# Altium schematic symbol library MyLib.SCHLIB: 62 symbols
Pins are listed as number, name and electrical type; pins without a type are passive.

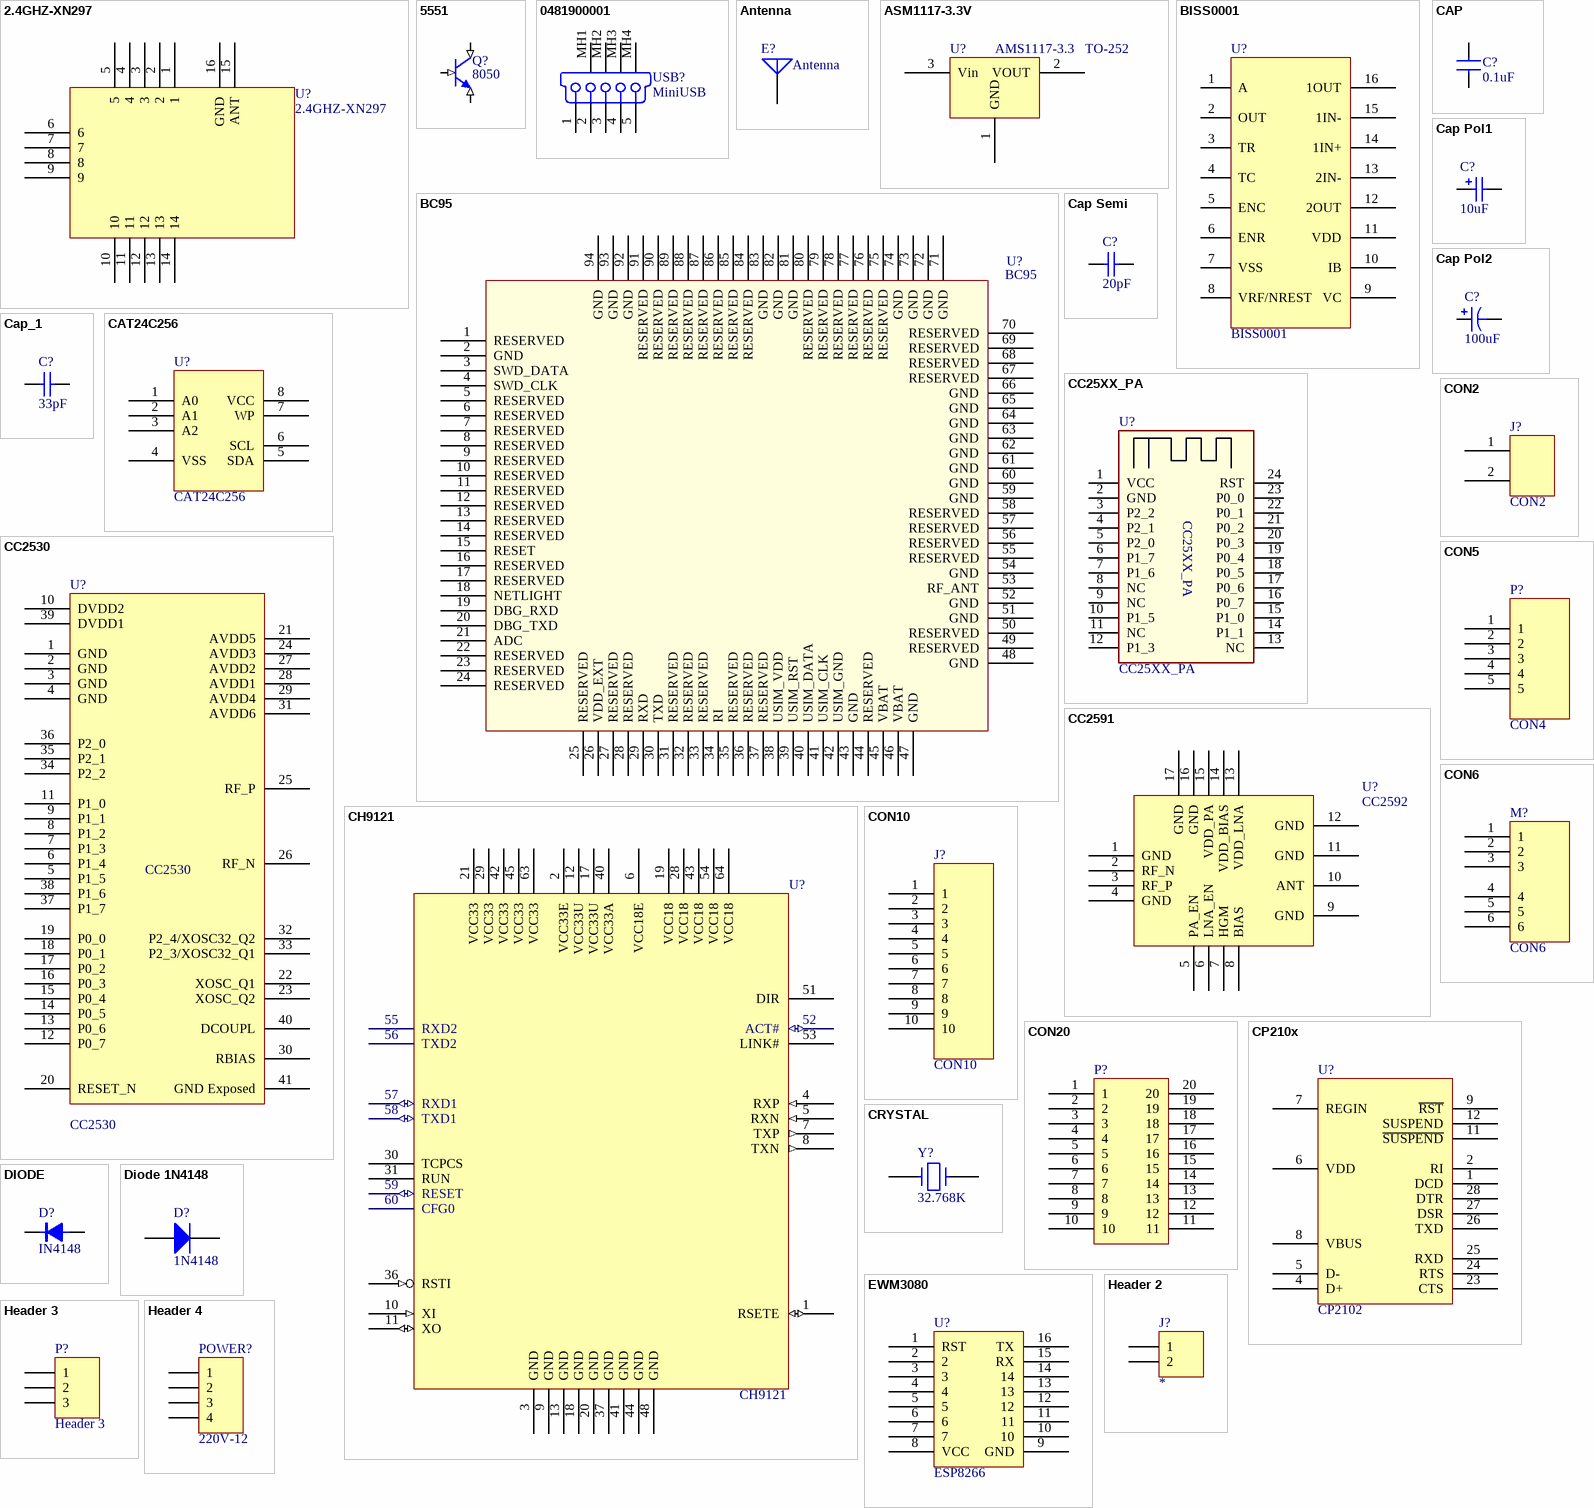
[diagram p0: symbols 2.4GHZ-XN297 to Header 4]

## 2.4GHZ-XN297
designator U?
footprint 2.4G-XN297
pins: 1, 2, 3, 4, 5, 6, 7, 8, 9, 10, 11, 12, 13, 14, 15 ANT, 16 GND

## 5551
designator Q?, comment 8050
NPN BJT
simulation model 5551 (NPN)
footprint SOT-23A
pins: 1 C (in), 2 B (in), 3 E (in)
1 alternate drawing of the same symbol

## 0481900001
designator USB?, comment MiniUSB
USB On-The-Go (OTG) Mini-B Receptacle, Right Angle, SMT, 0.80mm (.031") Pitch, Solder Tabs with Back Cover, Recessed Type; PCB_Layout: Complies with Manufacturer's Recommendation.; Published: 21-Sep-2007; DatasheetVersion: revA, May-2004; PackageVersion: May-2004; PackageReference: 481900001; Publisher: Altium Limited; PackageDescription: USB Mini-B, Sinking Type, SM; 5 Position; Right Angle, Body 11.45 x 11.8 x 3.9 mm (LxWxH); ComponentLink1Description: Manufacturer Link; ComponentLink1URL: http://www.molex.com/; ComponentLink2Description: Datasheet; ComponentLink2URL: http://www.molex.com/cmc_upload/0/000/895/958/SD-48190-001RevA.pdf
footprint USB-A-P; pin to pad MH1>6 MH2>7 MH3>8 MH4>9
signal-integrity model USB Mini-B
footprint MICROUSB2
pins: 1 V BUS (5V) "USB Vcc [Red]", 2 D- "USB Data - [White]", 3 D+ "USB Data + [Green]", 4 NC "Not Connected (or joined to pin 5 via resistor)", 5 GND "Ground [Black]", MH1 Tab "Shell", MH2 Tab "Shell", MH3 Tab "Shell", MH4 Tab "Shell"

## Antenna
designator E?
Generic Antenna; Published: 24-Mar-1999; LatestRevisionDate: 17-Jul-2002; LatestRevisionNote: Re-released for DXP Platform.; PackageReference: PIN1; Publisher: Altium Limited
footprint ANT
pins: 1 A

## ASM1117-3.3V
designator U?, comment AMS1117-3.3   TO-252
footprint TOP235
footprint TO-252
pins: 1 GND, 2 VOUT, 3 Vin

## BC95
designator U?
footprint BC95 (LCC, 58-Pins, Body 20.0x23.8mm (max), Pitch 1.10mm, IPC Medium Density)
pins: 1 RESERVED, 2 GND, 3 SWD_DATA, 4 SWD_CLK, 5 RESERVED, 6 RESERVED, 7 RESERVED, 8 RESERVED, 9 RESERVED, 10 RESERVED, 11 RESERVED, 12 RESERVED, 13 RESERVED, 14 RESERVED, 15 RESET, 16 RESERVED, 17 RESERVED, 18 NETLIGHT, 19 DBG_RXD, 20 DBG_TXD, 21 ADC, 22 RESERVED, 23 RESERVED, 24 RESERVED, 25 RESERVED, 26 VDD_EXT, 27 RESERVED, 28 RESERVED, 29 RXD, 30 TXD, 31 RESERVED, 32 RESERVED, 33 RESERVED, 34 RI, 35 RESERVED, 36 RESERVED, 37 RESERVED, 38 USIM_VDD, 39 USIM_RST, 40 USIM_DATA, 41 USIM_CLK, 42 USIM_GND, 43 GND, 44 RESERVED, 45 VBAT, 46 VBAT, 47 GND, 48 GND, 49 RESERVED, 50 RESERVED, 51 GND, 52 GND, 53 RF_ANT, 54 GND, 55 RESERVED, 56 RESERVED, 57 RESERVED, 58 RESERVED, 59 GND, 60 GND, 61 GND, 62 GND, 63 GND, 64 GND, 65 GND, 66 GND, 67 RESERVED, 68 RESERVED, 69 RESERVED, 70 RESERVED, 71 GND, 72 GND, 73 GND, 74 GND, 75 RESERVED, 76 RESERVED, 77 RESERVED, 78 RESERVED, 79 RESERVED, 80 RESERVED, 81 GND, 82 GND, 83 GND, 84 RESERVED, 85 RESERVED, 86 RESERVED, 87 RESERVED, 88 RESERVED, 89 RESERVED, 90 RESERVED, 91 RESERVED, 92 GND, 93 GND, 94 GND

## BISS0001
designator U?
footprint SOP16
pins: 1 A, 2 OUT, 3 TR, 4 TC, 5 ENC, 6 ENR, 7 VSS, 8 VRF/NREST, 9 VC, 10 IB, 11 VDD, 12 2OUT, 13 2IN-, 14 1IN+, 15 1IN-, 16 1OUT

## CAP
designator C?, comment 0.1uF
Capacitor; Value: 0.1uF
footprint 0603_C
footprint 0402
pins: 1, 2
2 alternate drawings of the same symbol

## Cap Pol1
designator C?, comment 10uF
Polarized Capacitor (Radial); Published: 8-Jun-2000; LatestRevisionDate: 17-Jul-2002; LatestRevisionNote: Re-released for DXP Platform.; PackageReference: RB7.6-15; Publisher: Altium Limited
simulation model CAP (Capacitor)
signal-integrity model Cap Pol
footprint 1206
pins: 1, 2
1 alternate drawing of the same symbol

## Cap Pol2
designator C?  value 100uF  (hidden comment: Cap Pol2)
Polarized Capacitor (Axial); Published: 8-Jun-2000; LatestRevisionDate: 17-Jul-2002; LatestRevisionNote: Re-released for DXP Platform.; PackageReference: POLAR0.8; Publisher: Altium Limited
footprint POLAR0.8 (Polarized Capacitor (Axial); 2 Leads)
footprint CAPPA14.05-10.5x6.3 (Capacitor, Axial, Polarised; Body 10.5 x 6.3 mm (LxDia. max), Lead Dia. 0.6 mm (typ))
footprint CAPPA23.6-18.5x8.5 (Capacitor, Axial, Polarised; Body 18.5 x 8.5 mm (LxDia. max), Lead Dia. 0.8 mm (typ))
footprint CAPPA31.6-26.5x12.5 (Capacitor, Axial, Polarised; Body 26.5 x 12.5 mm (LxDia. max), Lead Dia. 0.8 mm (typ))
footprint CAPPA35.6-30.5x18.5 (Capacitor, Axial, Polarised; Body 30.5 x 18.5 mm (LxDia. max), Lead Dia. 0.8 mm (typ))
footprint CAPPA46.1-41x21.5 (Capacitor, Axial, Polarised; Body 41 x 21.5 mm (LxDia. max), Lead Dia. 0.8 mm (typ))
simulation model CAP (Capacitor)
signal-integrity model Cap Pol
footprint 1206
pins: 1, 2
1 alternate drawing of the same symbol

## Cap Semi
designator C?  value 20pF  (hidden comment: Cap Semi)
Capacitor (Semiconductor SIM Model); Published: 8-Jun-2000; LatestRevisionDate: 17-Jul-2002; LatestRevisionNote: Re-released for DXP Platform.; PackageReference: C1206; Publisher: Altium Limited
simulation model CAP (Semiconductor Capacitor)
signal-integrity model Cap Semi
footprint 0603
footprint 0402
pins: 1, 2

## Cap_1
designator C?, comment value 33pF  (hidden comment: Cap)
Capacitor; Published: 8-Jun-2000; LatestRevisionDate: 17-Jul-2002; LatestRevisionNote: Re-released for DXP Platform.; PackageReference: RAD-0.3; Publisher: Altium Limited
footprint RAD-0.3 (Radial Cap, Thru-Hole; 2 Leads; 0.3 in Pin Spacing)
footprint CAPR2.54-5.1x3.2 (Capacitor, Ceramic, Thru-Hole, Dipped Radial; Body 5.1 x 3.2 mm (WxT) Pin Spacing 2.54 mm (typ))
footprint CAPR5.08-7.8x3.2 (Capacitor, Ceramic, Thru-Hole, Dipped Radial; Body 7.8 x 3.2 mm (WxT) Pin Spacing 5.08 mm (typ))
simulation model CAP (Capacitor)
signal-integrity model Cap
footprint 0402
pins: 1, 2

## CAT24C256
designator U?
footprint SO8
pins: 1 A0, 2 A1, 3 A2, 4 VSS, 5 SDA, 6 SCL, 7 WP, 8 VCC

## CC25XX_PA
designator U?
CC25XX_PA_MOD
footprint CC25XX_PA_MOD (CC2530ZIGBEE模块16*28mm)
pins: 1 VCC, 2 GND, 3 P2_2, 4 P2_1, 5 P2_0, 6 P1_7, 7 P1_6, 8 NC, 9 NC, 10 P1_5, 11 NC, 12 P1_3, 13 NC, 14 P1_1, 15 P1_0, 16 P0_7, 17 P0_6, 18 P0_5, 19 P0_4, 20 P0_3, 21 P0_2, 22 P0_1, 23 P0_0, 24 RST

## CC2530
designator U?
footprint QFN_40
pins: 1 GND, 2 GND, 3 GND, 4 GND, 5 P1_5, 6 P1_4, 7 P1_3, 8 P1_2, 9 P1_1, 10 DVDD2, 11 P1_0, 12 P0_7, 13 P0_6, 14 P0_5, 15 P0_4, 16 P0_3, 17 P0_2, 18 P0_1, 19 P0_0, 20 RESET_N, 21 AVDD5, 22 XOSC_Q1, 23 XOSC_Q2, 24 AVDD3, 25 RF_P, 26 RF_N, 27 AVDD2, 28 AVDD1, 29 AVDD4, 30 RBIAS, 31 AVDD6, 32 P2_4/XOSC32_Q2, 33 P2_3/XOSC32_Q1, 34 P2_2, 35 P2_1, 36 P2_0, 37 P1_7, 38 P1_6, 39 DVDD1, 40 DCOUPL, 41 GND Exposed

## CC2591
designator U?, comment CC2592
footprint QFN-16
pins: 1 GND, 2 RF_N, 3 RF_P, 4 GND, 5 PA_EN, 6 LNA_EN, 7 HGM, 8 BIAS, 9 GND, 10 ANT, 11 GND, 12 GND, 13 VDD_LNA, 14 VDD_BIAS, 15 VDD_PA, 16 GND, 17 GND

## CH9121
designator U?
footprint LQFP64M_10x10
footprint LQFP64_10x10
pins: 1 RSETE (io), 2 VCC33E (power), 3 GND (power), 4 RXP (in), 5 RXN (in), 6 VCC18E (power), 7 TXP (out), 8 TXN (out), 9 GND (power), 10 XI (in), 11 XO (io), 12 VCC33U (power), 13 GND (power), 17 VCC33U (power), 18 GND (power), 19 VCC18 (power), 20 GND (power), 21 VCC33 (power), 28 VCC18 (power), 29 VCC33 (power), 30 TCPCS, 31 RUN, 36 RSTI (in), 37 GND (power), 40 VCC33A (power), 41 GND (power), 42 VCC33 (power), 43 VCC18 (power), 44 GND (power), 45 VCC33 (power), 48 GND (power), 51 DIR, 52 ACT# (io), 53 LINK#, 54 VCC18 (power), 55 RXD2, 56 TXD2, 57 RXD1 (io), 58 TXD1 (io), 59 RESET (io), 60 CFG0, 63 VCC33 (power), 64 VCC18 (power)

## CON2
designator J?
footprint CON2-220V
pins: 1, 2

## CON5
designator P?, comment CON4
footprint PIN4-2
pins: 1, 2, 3, 4, 5

## CON6
designator M?
footprint CON6
pins: 1, 2, 3, 4, 5, 6

## CON10
designator J?
footprint CON10
pins: 1, 2, 3, 4, 5, 6, 7, 8, 9, 10

## CON20
designator P?  (value not drawn)
footprint SIP19
pins: 1, 2, 3, 4, 5, 6, 7, 8, 9, 10, 11, 12, 13, 14, 15, 16, 17, 18, 19, 20

## CP210x
designator U?, comment CP2102
footprint QFN28
pins: 0 GND (power) hidden to GND, 1 DCD, 2 RI, 3 GND hidden to GND, 4 D+, 5 D-, 6 VDD, 7 REGIN, 8 VBUS, 9 ~{RST}, 11 ~{SUSPEND}, 12 SUSPEND, 23 CTS, 24 RTS, 25 RXD, 26 TXD, 27 DSR, 28 DTR

## CRYSTAL
designator Y?, comment 32.768K
Crystal
footprint 32.768
pins: 1, 2

## DIODE
designator D?, comment IN4148
SMD Schottky  SMA SS110
footprint Diode
footprint 0603
pins: 1, 2
2 alternate drawings of the same symbol

## Diode 1N4148
designator D?, comment 1N4148
High Conductance Fast Diode; Published: 8-Jun-2000; LatestRevisionDate: 17-Jul-2002; LatestRevisionNote: Re-released for DXP Platform.; DatasheetVersion: 1997; PackageReference: DO-35; Publisher: Altium Limited; PackageDescription: Diode, Axial; Body 3.8 x 1.9 mm (LxDia. max), Lead Dia. 0.53 mm (max); Code_JEDEC: DO-204-AH; ComponentLink1Description: Manufacturer Link; ComponentLink1URL: http://www.fairchildsemi.com/; ComponentLink2Description: Datasheet; ComponentLink2URL: http://www.fairchildsemi.com/ds/1N%2F1N4148.pdf
footprint 1206D
simulation model 1N4148 (DIODE)
signal-integrity model 1N4148
footprint 0603-LED
pins: 1 A, 2 K

## EWM3080
designator U?, comment ESP8266
footprint EMW3080
footprint ESP8266
pins: 1 RST, 2, 3, 4, 5, 6, 7, 8 VCC, 9 GND, 10, 11, 12, 13, 14, 15 RX, 16 TX

## Header 2
designator J?
Header, 2-Pin; LatestRevisionDate: 17-Jul-2002; LatestRevisionNote: Re-released for DXP Platform.; Publisher: Altium Limited
footprint HDR1X2 (Connector; Header; 2 Position)
signal-integrity model Connector
footprint HDR3-H (Connector; Header; 10x2 Position)
footprint 3.5DC
footprint DC2.54
footprint 3.5DC
footprint CON2
pins: 1, 2

## Header 3
designator P?
Header, 3-Pin; LatestRevisionDate: 17-Jul-2002; LatestRevisionNote: Re-released for DXP Platform.; Publisher: Altium Limited
footprint HDR1X3 (Connector; Header; 3 Position)
signal-integrity model Connector
footprint PIR200B
footprint PIR200B
pins: 1, 2, 3

## Header 4
designator POWER?, comment 220V-12
Header, 4-Pin; LatestRevisionDate: 17-Jul-2002; LatestRevisionNote: Re-released for DXP Platform.; Publisher: Altium Limited
footprint HDR1X4 (Connector; Header; 4 Position)
signal-integrity model Connector
footprint HDR1X4
footprint 220V-12
pins: 1, 2, 3, 4

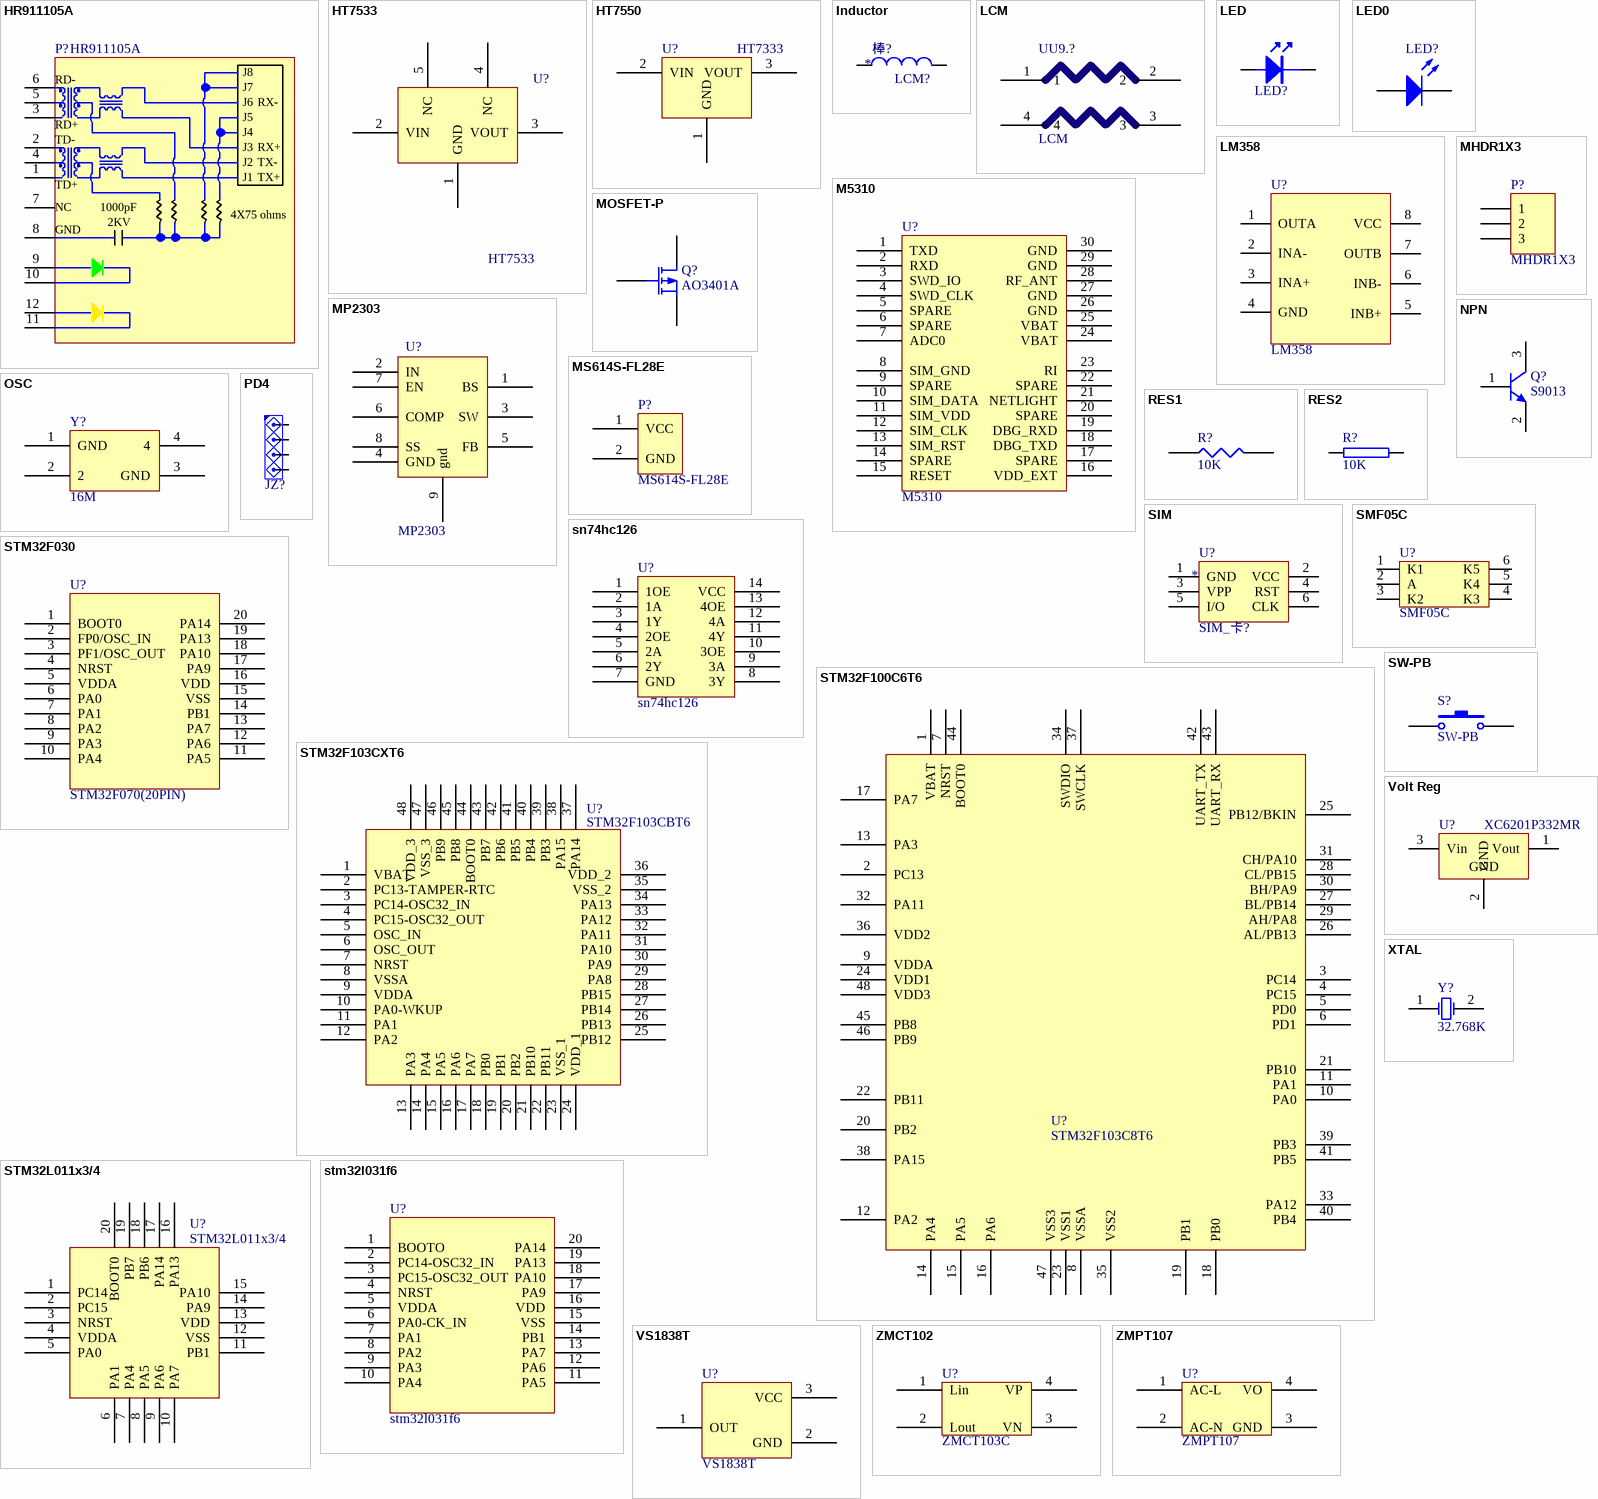
[diagram p1: symbols HR911105A to ZMPT107]

## HR911105A
designator P?
footprint HR911105A
pins: 1, 2, 3, 4, 5, 6, 7, 8, 9, 10, 11, 12
2 alternate drawings of the same symbol
text: J8; RD-; J7; J6; RX-; J5; RD+; J4; TD-; J3; RX+; J2; TX-; J1; TX+; TD+; NC; 1000pF; 4X75 ohms; 2KV; GND

## HT7533
designator U?
footprint LC-SOT-23-5
pins: 1 GND, 2 VIN, 3 VOUT, 4 NC, 5 NC

## HT7550
designator U?, comment HT7333
footprint SOT-89 (Footprint not found)
pins: 1 GND, 2 VIN, 3 VOUT

## Inductor
designator LCM?
Inductor; Code_IEC: 1005; Published: 8-Jun-2000; LatestRevisionDate: 17-Jul-2002; LatestRevisionNote: Re-released for DXP Platform.; PackageReference: 0402-A; Publisher: Altium Limited; Code_JEITA: 0402
simulation model INDUCTOR (Inductor)
signal-integrity model Inductor
footprint 7*7*4
footprint L7X7X4
footprint CON2
footprint BZ4
pins: 1, 2
text: 棒?

## LCM
designator UU9.?
pins: 1, 2, 3, 4

## LED
designator LED?, comment Φ3Red  (value not drawn)
footprint 0603-LED
pins: 1, 2
2 alternate drawings of the same symbol

## LED0
designator LED?  (value not drawn)
Typical INFRARED GaAs LED; Published: 8-Jun-2000; LatestRevisionDate: 08-Jul-2005; LatestRevisionNote: Mech Layer 1 removed.; PackageReference: LED-0; Publisher: Altium Limited
footprint LED-0 (Typical INFRARED GaAs LED; 2 Leads)
simulation model LED0 (Diode)
footprint 0603-LED
pins: 1 A, 2 K

## LM358
designator U?
footprint SO-8
pins: 1 OUTA, 2 INA-, 3 INA+, 4 GND, 5 INB+, 6 INB-, 7 OUTB, 8 VCC

## M5310
designator U?
footprint M5310
pins: 1 TXD, 2 RXD, 3 SWD_IO, 4 SWD_CLK, 5 SPARE, 6 SPARE, 7 ADC0, 8 SIM_GND, 9 SPARE, 10 SIM_DATA, 11 SIM_VDD, 12 SIM_CLK, 13 SIM_RST, 14 SPARE, 15 RESET, 16 VDD_EXT, 17 SPARE, 18 DBG_TXD, 19 DBG_RXD, 20 SPARE, 21 NETLIGHT, 22 SPARE, 23 RI, 24 VBAT, 25 VBAT, 26 GND, 27 GND, 28 RF_ANT, 29 GND, 30 GND

## MHDR1X3
designator P?
Header, 3-Pin; LatestRevisionDate: 17-Jul-2002; LatestRevisionNote: Re-released for DXP Platform.; Publisher: Altium Limited
footprint MHDR1X3 (Connector; Header; 3 Position)
signal-integrity model Connector
footprint MHDR1X3 (Connector; Header; 3 Position)
footprint PIN-3
footprint PIN-3
footprint PIN-3
footprint 3P-2MM
pins: 1, 2, 3

## MOSFET-P
designator Q?, comment AO3401A
P-Channel MOSFET
footprint SOT-23A
pins: 1 D, 2 G, 3 S

## MP2303
designator U?
footprint SOP8
footprint SOP-8（SOIC） (SOP, 8-Leads, Body 4.90x3.90mm, Pitch 1.27mm, IPC Medium Density)
footprint SOP8
pins: 1 BS, 2 IN, 3 SW, 4 GND, 5 FB, 6 COMP, 7 EN, 8 SS, 9 gnd

## MS614S-FL28E
designator P?
footprint MS614S-FL28E
pins: 1 VCC, 2 GND

## NPN
designator Q?, comment S9013
NPN Bipolar Transistor; Published: 8-Jun-2000; LatestRevisionDate: 17-Jul-2002; LatestRevisionNote: Re-released for DXP Platform.; PackageReference: TO-226-AA; Publisher: Altium Limited; PackageDescription: TO, Flat Index; 3 In-Line, Axial Leads; Body Dia. 4.8mm; Leads 0.55 x 0.51 mm (max); Code_JEDEC: TO-226-AA
footprint SOT-23
footprint SOT-23
footprint SOT23
footprint SOT23
pins: 1 B, 2 E, 3 C
2 alternate drawings of the same symbol

## OSC
designator Y?, comment 16M
footprint OSC4_3225
footprint 3225
pins: 1 GND, 2, 3 GND, 4

## PD4
designator JZ?  (value not drawn)
footprint HDR1X4
pins: 1, 2, 3, 4

## RES1
designator R?, comment 10K
footprint 0402
pins: 1, 2

## RES2
designator R?, comment 10K
footprint 0603_R
footprint 0402
pins: 1, 2

## SIM
designator U?
Micro_SIM
footprint MICRO_SIM
pins: 1 GND, 2 VCC, 3 VPP, 4 RST, 5 I/O, 6 CLK
text: SIM_卡?

## SMF05C
designator U?
TVS
footprint SOT65P210X110-6N (SOT23, 6-Leads, Body 2.2x2.4mm (max), Pitch 0.65mm, IPC Medium Density)
footprint SOT6
pins: 1 K1, 2 A, 3 K2, 4 K3, 5 K4, 6 K5

## sn74hc126
designator U?
footprint SOIC14 (SOIC, 14-Leads, Body 8.65x3.90mm, Pitch 1.27mm, IPC Medium Density)
pins: 1 1OE, 2 1A, 3 1Y, 4 2OE, 5 2A, 6 2Y, 7 GND, 8 3Y, 9 3A, 10 3OE, 11 4Y, 12 4A, 13 4OE, 14 VCC

## STM32F030
designator U?, comment STM32F070(20PIN)
footprint STM8-20PIN
pins: 1 BOOT0, 2 FP0/OSC_IN, 3 PF1/OSC_OUT, 4 NRST, 5 VDDA, 6 PA0, 7 PA1, 8 PA2, 9 PA3, 10 PA4, 11 PA5, 12 PA6, 13 PA7, 14 PB1, 15 VSS, 16 VDD, 17 PA9, 18 PA10, 19 PA13, 20 PA14

## STM32F100C6T6
designator U?, comment STM32F103C8T6
XC866
footprint STM32F103-QFP48 (TSQFP, 48-Leads, Body 9.0x9.0mm (max), Pitch 0.50mm, IPC Medium Density)
pins: 1 VBAT, 2 PC13, 3 PC14, 4 PC15, 5 PD0, 6 PD1, 7 NRST, 8 VSSA, 9 VDDA, 10 PA0, 11 PA1, 12 PA2, 13 PA3, 14 PA4, 15 PA5, 16 PA6, 17 PA7, 18 PB0, 19 PB1, 20 PB2, 21 PB10, 22 PB11, 23 VSS1, 24 VDD1, 25 PB12/BKIN, 26 AL/PB13, 27 BL/PB14, 28 CL/PB15, 29 AH/PA8, 30 BH/PA9, 31 CH/PA10, 32 PA11, 33 PA12, 34 SWDIO, 35 VSS2, 36 VDD2, 37 SWCLK, 38 PA15, 39 PB3, 40 PB4, 41 PB5, 42 UART_TX, 43 UART_RX, 44 BOOT0, 45 PB8, 46 PB9, 47 VSS3, 48 VDD3

## STM32F103CXT6
designator U?, comment STM32F103CBT6
footprint QFN48
footprint STM32F103-QFP48
pins: 1 VBAT, 2 PC13-TAMPER-RTC, 3 PC14-OSC32_IN, 4 PC15-OSC32_OUT, 5 OSC_IN, 6 OSC_OUT, 7 NRST, 8 VSSA, 9 VDDA, 10 PA0-WKUP, 11 PA1, 12 PA2, 13 PA3, 14 PA4, 15 PA5, 16 PA6, 17 PA7, 18 PB0, 19 PB1, 20 PB2, 21 PB10, 22 PB11, 23 VSS_1, 24 VDD_1, 25 PB12, 26 PB13, 27 PB14, 28 PB15, 29 PA8, 30 PA9, 31 PA10, 32 PA11, 33 PA12, 34 PA13, 35 VSS_2, 36 VDD_2, 37 PA14, 38 PA15, 39 PB3, 40 PB4, 41 PB5, 42 PB6, 43 PB7, 44 BOOT0, 45 PB8, 46 PB9, 47 VSS_3, 48 VDD_3

## STM32L011x3/4
designator U?
pins: 1 PC14, 2 PC15, 3 NRST, 4 VDDA, 5 PA0, 6 PA1, 7 PA4, 8 PA5, 9 PA6, 10 PA7, 11 PB1, 12 VSS, 13 VDD, 14 PA9, 15 PA10, 16 PA13, 17 PA14, 18 PB6, 19 PB7, 20 BOOT0

## stm32l031f6
designator U?
footprint TSSOP20
pins: 1 BOOTO, 2 PC14-OSC32_IN, 3 PC15-OSC32_OUT, 4 NRST, 5 VDDA, 6 PA0-CK_IN, 7 PA1, 8 PA2, 9 PA3, 10 PA4, 11 PA5, 12 PA6, 13 PA7, 14 PB1, 15 VSS, 16 VDD, 17 PA9, 18 PA10, 19 PA13, 20 PA14

## SW-PB
designator S?
Switch; Published: 24-Mar-1999; LatestRevisionDate: 17-Jul-2002; LatestRevisionNote: Re-released for DXP Platform.; PackageReference: SPST-2; Publisher: Altium Limited; PackageDescription: Switch; 2 Leads
footprint SPST-2 (Switch; 2 Leads)
footprint BUTTON_CL-4 (侧立式按键4脚)
pins: 1, 2

## Volt Reg
designator U?, comment XC6201P332MR
Voltage Regulator; Published: 24-Mar-1999; LatestRevisionDate: 29-May-2009; LatestRevisionNote: IPC-7351 Footprint Added.; PackageReference: D2PAK; Publisher: Altium Limited; PackageDescription: 3-Pin Transistor Outline Package 2.54 mm Pitch, 15.1 mm Lead Span
footprint Model Name (Footprint not found)
footprint SOT23-5 (SOT23, 5-Leads, Body 3.1x3.0mm (max), Pitch 0.95mm, IPC Medium Density)
footprint SOT-89
footprint SOT89-78L05 (SOT89, 3-Leads, Body 4.5x2.4mm (max), Pitch 1.50mm, Lead Span 4.1mm, IPC Medium Density)
footprint SOT-89
pins: 1 Vout, 2 GND, 3 Vin

## VS1838T
designator U?
footprint VS1838
pins: 1 OUT, 2 GND, 3 VCC

## XTAL
designator Y?, comment 32.768K
Crystal Oscillator; Published: 8-Jun-2000; LatestRevisionDate: 17-Jul-2002; LatestRevisionNote: Re-released for DXP Platform.; PackageReference: R38; Publisher: Altium Limited
footprint BCY-W2/D3.1 (Crystal, Thru-Hole; 2 Leads; Body 3.1 x 8.2 mm (Dia.xH))
simulation model XTAL (Spice Subcircuit)
footprint 32.768
pins: 1 OSC1, 2 OSC2

## ZMCT102
designator U?, comment ZMCT103C
footprint ZMCT103C
pins: 1 Lin, 2 Lout, 3 VN, 4 VP

## ZMPT107
designator U?
footprint ZMPT107
pins: 1 AC-L, 2 AC-N, 3 GND, 4 VO